# Altium schematic symbol library MicroSD.SchLib: 1 symbol
Pins are listed as number, name and electrical type; pins without a type are passive.

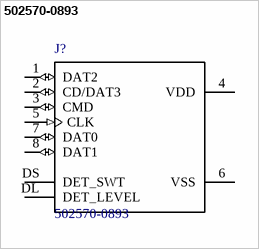
[diagram p0: symbol 502570-0893]

## 502570-0893
designator J?
1.10mm Pitch microSD Memory Card Connector, Normal Mount Surface Mount, Push-Push Type; MF: Molex; Availability: Unavailable; Package: None; SnapEDA_Link: https://www.snapeda.com/parts/502570-0893/Molex/view-part/?ref=snap; MP: 502570-0893; Price: None; Value: *
footprint MOLEX_502570-0893_502570-0893(Primary)
pins: 1 DAT2 (io), 2 CD/DAT3 (io), 3 CMD (io), 4 VDD (power), 5 CLK (in), 6 VSS (power), 7 DAT0 (io), 8 DAT1 (io), DL DET_LEVEL, DS DET_SWT